# Altium schematic symbol library SMD1812B110TF_33.SchLib: 1 symbol
Pins are listed as number, name and electrical type; pins without a type are passive.

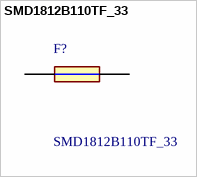
[diagram p0: symbol SMD1812B110TF_33]

## SMD1812B110TF_33
designator F?
Resettable Fuses - PPTC PPTC SMD 1812, 33V 1.1A, Reel 7"; Manufacturer_Name: Yageo Group; Manufacturer_Part_Number: SMD1812B110TF/33; Geometry.Height: 2mm; Mouser Part Number: 603-SMD1812B110TF/33; Mouser Price/Stock: https://www.mouser.co.uk/ProductDetail/YAGEO/SMD1812B110TF-33?qs=PzGy0jfpSMuML01qySW0Yw%3D%3D; Datasheet Link: https://www.mouser.cn/datasheet/2/447/SMD1812_1-1955023.pdf
footprint FUSC4632X200N
pins: 1, 2